# EAGLE library part NHD_128X32 (library newhaven)
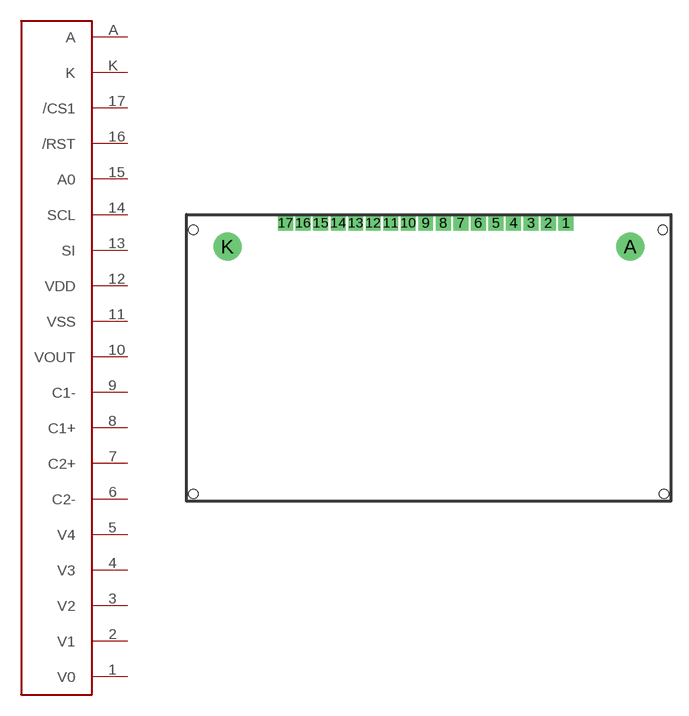
[diagram p0: symbol with the pads of NHD_128X32; footprint NHD_128X32]

Designator prefix -

## NHD_128X32  [NHD_128X32]
1  V0
2  V1
3  V2
4  V3
5  V4
6  C2-
7  C2+
8  C1+
9  C1-
10  VOUT
11  VSS
12  VDD
13  SI
14  SCL
15  A0
16  /RST
17  /CS1
A  A
K  K

## Footprint NHD_128X32 (pad centres in mm)
drill 0.7 pad 1.27 square: 1 32.5,24; 2 31,24; 3 29.5,24; 4 28,24; 5 26.5,24; 6 25,24; 7 23.5,24; 8 22,24; 9 20.5,24; 10 19,24; 11 17.5,24; 12 16,24; 13 14.5,24; 14 13,24; 15 11.5,24; 16 10,24; 17 8.5,24
drill 1.6: A 37.999,21.992; K 3.508,21.99
hole 0.8 at 0.6,23.4
hole 0.8 at 0.6,0.8
hole 0.8 at 40.9,0.8
hole 0.8 at 40.8,23.4